# EAGLE library part SNESCART_CONN_CLONE (library cartreader)
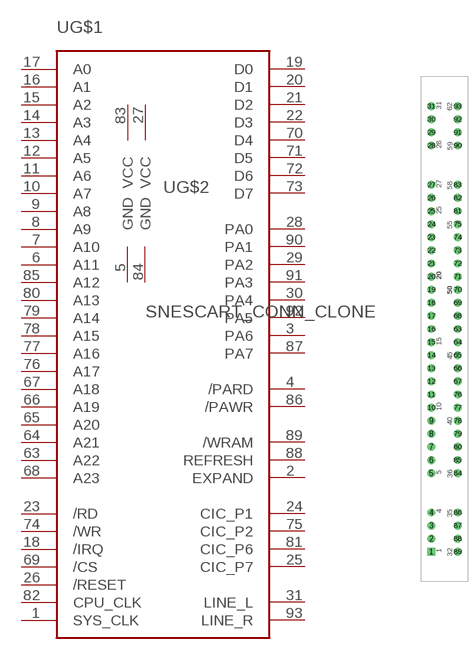
[diagram p11: symbol with the pads of SNESCART_CONN_CLONE; footprint SNESCART_CONN_CLONE]

Designator prefix -; gates G$1=SNESCART_CONN G$2=CART_PWR

## SNESCART_CONN_CLONE  [SNESCART_CONN_CLONE]
1  G$1:SYS_CLK
2  G$1:EXPAND
3  G$1:PA6
4  G$1:/PARD
5  G$2:GND  pwr
6  G$1:A11
7  G$1:A10
8  G$1:A9
9  G$1:A8
10  G$1:A7
11  G$1:A6
12  G$1:A5
13  G$1:A4
14  G$1:A3
15  G$1:A2
16  G$1:A1
17  G$1:A0
18  G$1:/IRQ
19  G$1:D0
20  G$1:D1
21  G$1:D2
22  G$1:D3
23  G$1:/RD
24  G$1:CIC_P1
25  G$1:CIC_P7
26  G$1:/RESET
27  G$2:VCC  pwr
28  G$1:PA0
29  G$1:PA2
30  G$1:PA4
31  G$1:LINE_L
63  G$1:A22
64  G$1:A21
65  G$1:A20
66  G$1:A19
67  G$1:A18
68  G$1:A23
69  G$1:/CS
70  G$1:D4
71  G$1:D5
72  G$1:D6
73  G$1:D7
74  G$1:/WR
75  G$1:CIC_P2
76  G$1:A17
77  G$1:A16
78  G$1:A15
79  G$1:A14
80  G$1:A13
81  G$1:CIC_P6
82  G$1:CPU_CLK
83  G$2:VCC  pwr
84  G$2:GND  pwr
85  G$1:A12
86  G$1:/PAWR
87  G$1:PA7
88  G$1:REFRESH
89  G$1:/WRAM
90  G$1:PA1
91  G$1:PA3
92  G$1:PA5
93  G$1:LINE_R

## Footprint SNESCART_CONN_CLONE (pad centres in mm)
drill 1 square: 1 -2.5,-42.5
drill 1: 2 -2.5,-40; 3 -2.5,-37.5; 4 -2.5,-35; 5 -2.5,-27.5; 6 -2.5,-25; 7 -2.5,-22.5; 8 -2.5,-20; 9 -2.5,-17.5; 10 -2.5,-15; 11 -2.5,-12.5; 12 -2.5,-10; 13 -2.5,-7.5; 14 -2.5,-5; 15 -2.5,-2.5; 16 -2.5,0; 17 -2.5,2.5; 18 -2.5,5; 19 -2.5,7.5; 20 -2.5,10; 21 -2.5,12.5; 22 -2.5,15; 23 -2.5,17.5; 24 -2.5,20; 25 -2.5,22.5; 26 -2.5,25; 27 -2.5,27.5; 28 -2.5,35; 29 -2.5,37.5; 30 -2.5,40; 31 -2.5,42.5; 63 2.51,0.002; 64 2.51,-2.498; 65 2.51,-4.998; 66 2.51,-7.498; 67 2.51,-9.998; 68 2.51,2.502; 69 2.51,5.002; 70 2.51,7.502; 71 2.51,10.002; 72 2.51,12.502; 73 2.51,15.002; 74 2.51,17.502; 75 2.51,20.002; 76 2.51,-12.498; 77 2.51,-14.998; 78 2.51,-17.498; 79 2.51,-19.998; 80 2.51,-22.498; 81 2.51,22.502; 82 2.51,25.002; 83 2.51,27.502; 84 2.51,-27.498; 85 2.51,-24.998; 86 2.51,-34.998; 87 2.51,-37.498; 88 2.51,-39.998; 89 2.51,-42.498; 90 2.51,35.002; 91 2.51,37.502; 92 2.51,40.002; 93 2.51,42.502